# EAGLE library part BQ25570RGRR (library PassiveLiFiTag)
IC ENERGY HARV CTRLR BATT 20VQFN
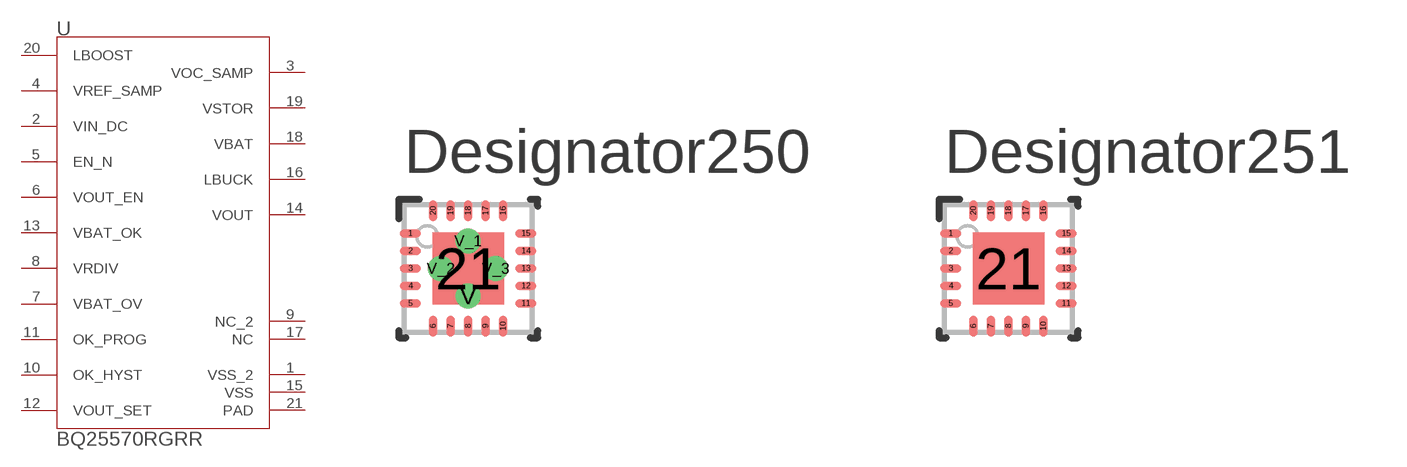
[diagram p3: symbol with the pads of RGR0020A; footprints RGR0020A, RGR0020A_NV]

Designator prefix U

## BQ25570RGRR (COPYRIGHT: Copyright (C) 2023 Ultra Librarian. All rights reserved.; DIGIKEY_PART_NUMBER_1: 2156-BQ25570RGRR-ND; DIGIKEY_PART_NUMBER_2: 296-39934-1-ND; DIGIKEY_PART_NUMBER_3: 296-39934-2-ND; DIGIKEY_PART_NUMBER_4: 296-39934-6-ND; DIGIKEY_PART_NUMBER_5: BQ25570RGRR-ND; MANUFACTURER_PART_NUMBER: BQ25570RGRR; MFR_NAME: Texas Instruments; REFDES: RefDes; TYPE: TYPE)  [RGR0020A]
1  VSS_2  pwr
2  VIN_DC  pwr
3  VOC_SAMP  in
4  VREF_SAMP  in
5  EN_N  in
6  VOUT_EN  in
7  VBAT_OV  in
8  VRDIV  out
9  NC_2  pwr
10  OK_HYST  in
11  OK_PROG  in
12  VOUT_SET  in
13  VBAT_OK  out
14  VOUT  pwr
15  VSS  pwr
16  LBUCK  pas
17  NC  pas
18  VBAT
19  VSTOR  pwr
20  LBOOST  in
21  PAD  pwr

## BQ25570RGRRRGR0020A_NV (COPYRIGHT: Copyright (C) 2023 Ultra Librarian. All rights reserved.; DIGIKEY_PART_NUMBER_1: 2156-BQ25570RGRR-ND; DIGIKEY_PART_NUMBER_2: 296-39934-1-ND; DIGIKEY_PART_NUMBER_3: 296-39934-2-ND; DIGIKEY_PART_NUMBER_4: 296-39934-6-ND; DIGIKEY_PART_NUMBER_5: BQ25570RGRR-ND; MANUFACTURER_PART_NUMBER: BQ25570RGRR; MFR_NAME: Texas Instruments; REFDES: RefDes; TYPE: TYPE)  [RGR0020A_NV]
Pads as for RGR0020A

## Footprint RGR0020A (pad centres in mm)
smd 0.6 x 0.24: 1 -1.65,1; 2 -1.65,0.5; 3 -1.65,0; 4 -1.65,-0.5; 5 -1.65,-1; 11 1.65,-1; 12 1.65,-0.5; 13 1.65,0; 14 1.65,0.5; 15 1.65,1
smd 0.24 x 0.6: 6 -1,-1.65; 7 -0.5,-1.65; 8 0,-1.65; 9 0.5,-1.65; 10 1,-1.65; 16 1,1.65; 17 0.5,1.65; 18 0,1.65; 19 -0.5,1.65; 20 -1,1.65
smd 2.05 x 2.05: 21 0,0
drill 0.203 pad 0.508: V 0,-0.787; V_1 0,0.787; V_2 -0.787,0; V_3 0.787,0

## Footprint RGR0020A_NV (pad centres in mm)
smd 0.6 x 0.24: 1 -1.65,1; 2 -1.65,0.5; 3 -1.65,0; 4 -1.65,-0.5; 5 -1.65,-1; 11 1.65,-1; 12 1.65,-0.5; 13 1.65,0; 14 1.65,0.5; 15 1.65,1
smd 0.24 x 0.6: 6 -1,-1.65; 7 -0.5,-1.65; 8 0,-1.65; 9 0.5,-1.65; 10 1,-1.65; 16 1,1.65; 17 0.5,1.65; 18 0,1.65; 19 -0.5,1.65; 20 -1,1.65
smd 2.05 x 2.05: 21 0,0